# EAGLE library part PWR_REG_TPS65632 (library !GPLIB_ACTIVE)
Triple-Output AMOLED Display Power Supply
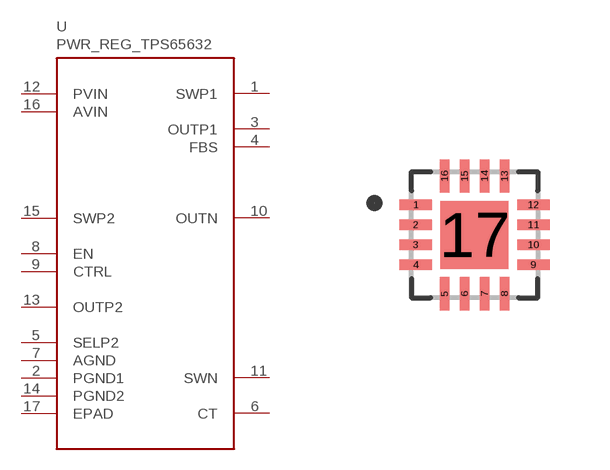
[diagram p13: symbol with the pads of QFN50P300X300X80-17N; footprint QFN50P300X300X80-17N]

Designator prefix U

## PWR_REG_TPS65632_TPS65632ARTER  [QFN50P300X300X80-17N]
1  SWP1  in
2  PGND1  pwr
3  OUTP1  out
4  FBS  in
5  SELP2  in
6  CT
7  AGND  pwr
8  EN  in
9  CTRL  in
10  OUTN  out
11  SWN
12  PVIN  in
13  OUTP2  out
14  PGND2  pwr
15  SWP2  in
16  AVIN  in
17  EPAD  pwr

## Footprint QFN50P300X300X80-17N (pad centres in mm)
smd 0.83 x 0.26: 1 -1.47,0.75; 2 -1.47,0.25; 3 -1.47,-0.25; 4 -1.47,-0.75; 9 1.47,-0.75; 10 1.47,-0.25; 11 1.47,0.25; 12 1.47,0.75
smd 0.26 x 0.83: 5 -0.75,-1.47; 6 -0.25,-1.47; 7 0.25,-1.47; 8 0.75,-1.47; 13 0.75,1.47; 14 0.25,1.47; 15 -0.25,1.47; 16 -0.75,1.47
smd 1.7 x 1.7: 17 0,0